# Altium schematic symbol library Schematic_Diode.SchLib: 12 symbols
Pins are listed as number, name and electrical type; pins without a type are passive.

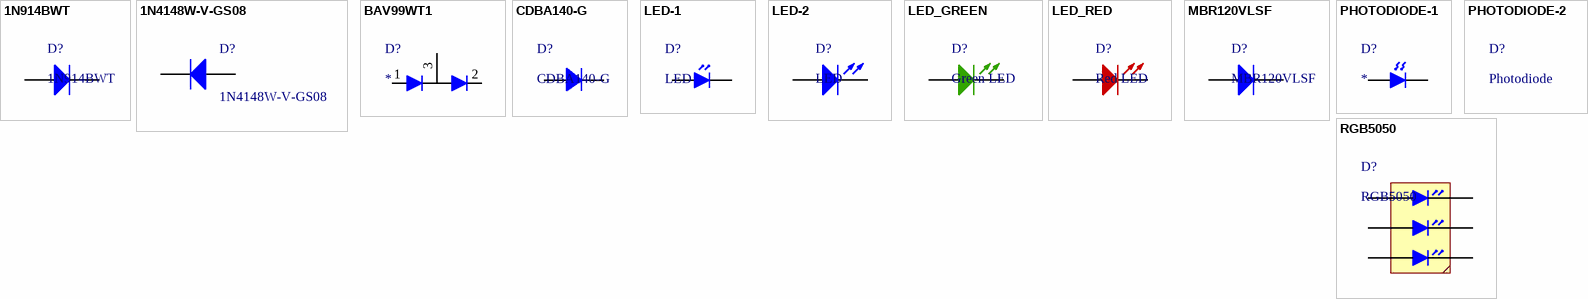
[diagram p0: symbols 1N914BWT to RGB5050]

## 1N914BWT
designator D?
DIODE GEN PURP 75V 200MA SOD523F; Manufacturer: ON Semiconductor / Fairchild; Peak Reverse Current: 5uA; Element Configuration: Single; Forward Current: 300mA; Forward Voltage: 1V; Reverse Recovery Time: 4ns; Power Dissipation: 200mW; Supplier 1: Digi-Key; Manufacturer Part Number: 1N914BWT; Stock 1: 39736; Pricing 1: 1=0.17, 10=0.159, 100=0.0866, 500=0.0533, 1000=0.0364 (USD); Mount: Surface Mount; Number of Pins: 2; Weight: 0.01g; Contact Plating: Tin,Matte; Min Operating Temperature: -55°C; Max Operating Temperature: 150°C; Max Repetitive Reverse Voltage (Vrrm): 75V; Package Quantity: 1; Packaging: Tape and Reel; Average Rectified Current: 200mA; Max Reverse Voltage (DC): 75V; Recovery Time: 4ns; Max Reverse Leakage Current: 5uA; Radiation Hardening: No; Lead Free: Lead Free; REACH SVHC: No SVHC; ComponentLink1URL: https://datasheet.ciiva.com/910/1n914bwt-910384.pdf; ComponentLink1Description: https://datasheet.ciiva.com/910/1n914bwt-910384.pdf; ComponentLink2URL: https://datasheet.ciiva.com/910/1n914bwt-910385.pdf; ComponentLink2Description: https://datasheet.ciiva.com/910/1n914bwt-910385.pdf; ComponentLink3URL: https://datasheet.ciiva.com/910/1n914bwt-910383.pdf; ComponentLink3Description: https://datasheet.ciiva.com/910/1n914bwt-910383.pdf; ComponentLink4URL: https://datasheet.ciiva.com/25953/1n4448wt-25953279.pdf; ComponentLink4Description: https://datasheet.ciiva.com/25953/1n4448wt-25953279.pdf
footprint SODFL160X70-2N (SOD-523F, 2-Leads, Body 0.80x1.60mm, IPC Medium Density)
pins: 1 A, 2 K

## 1N4148W-V-GS08
designator D?
Diodes - General Purpose, Power, Switching 100V Io/150mA; Manufacturer_Name: Vishay; Allied_Number: 70061969; Geometry.Height: 1.35mm; Manufacturer_Part_Number: 1N4148W-V-GS08; Mouser Part Number: 625-1N4148W-V; Mouser Price/Stock: https://www.mouser.com/Search/Refine.aspx?Keyword=625-1N4148W-V; RS Part Number: *; RS Price/Stock: *; Allied Price/Stock: https://www.alliedelec.com/vishay-small-signal-opto-products-ssp-1n4148w-v-gs08/70061969/; Datasheet Link: http://www.vishay.com/docs/85748/1n4148w.pdf; Supplier 1: Digi-Key; Supplier Part Number 1: 1N4148W-V-GS08CT-ND
footprint DIOM3715X14N (Molded Diode, 2-Leads, Body 3.70x1.55mm, IPC Medium Density)
pins: 1 K, 2 A

## BAV99WT1
designator D?
DIODE ARRAY GP 100V 215MA SC70-3
pins: 1 ANODE, 2 ANODE, 3 ANODE

## CDBA140-G
designator D?
DIODE SCHOTTKY 40V 1A DO214AC; Manufacturer 1: Comchip; Max Surge Current: 30A; Max Reverse Leakage Current: 500uA; Polarity: Standard; Supplier 1: Digi-Key; Manufacturer Part Number 1: CDBA140-G; Stock 1: 378486; Pricing 1: 1=0.34000, 10=0.27700, 100=0.11330, 500=0.09450, 1000=0.06566, 2500=0.06103 (USD); RoHS: Yes; Mount: Surface Mount; Packaging: Tape and Reel; Average Rectified Current: 1A; Max Reverse Voltage (DC): 40V; Package Quantity: 1; Voltage Rating (DC): 40V; Current Rating: 1A; Output Current: 1A; Lead Free: Lead Free; ComponentLink1URL: https://datasheet.ciiva.com/912/cdba120-gthru934256-cdba1100-grevc-912052.pdf?src-supplier=Digi-Key; ComponentLink1Description: https://datasheet.ciiva.com/912/cdba120-gthru934256-cdba1100-grevc-912052.pdf?src-supplier=Digi-Key; ComponentLink2URL: https://datasheet.ciiva.com/912/cdba120-gthru934256-cdba1100-grevc-912051.pdf?src-supplier=Digi-Key; ComponentLink2Description: https://datasheet.ciiva.com/912/cdba120-gthru934256-cdba1100-grevc-912051.pdf?src-supplier=Digi-Key; ComponentLink3URL: https://datasheet.ciiva.com/912/cdba120-gthru934256-cdba1100-grevc-912053.pdf?src-supplier=Digi-Key; ComponentLink3Description: https://datasheet.ciiva.com/912/cdba120-gthru934256-cdba1100-grevc-912053.pdf?src-supplier=Digi-Key
footprint DIOM4326X24N (DO214AC, SMA, Molded Diode, 2-Leads, Body 4.30x2.60mm, IPC Medium Density)
pins: 1 + "Anode", 2 - "Cathode"

## LED-1
designator D?, comment LED
General LED
pins: 1 + "Anode", 2 - "Cathode"

## LED-2
designator D?, comment LED
General LED
pins: 1 A, 2 K

## LED_GREEN
designator D?, comment Green LED
General Green LED
pins: 1 A, 2 K

## LED_RED
designator D?, comment Red LED
General Green LED
pins: 1 A, 2 K

## MBR120VLSF
designator D?
MBR120VLSF Series 20 V 1 A Surface Mount Schottky Power Rectifier - SOD-123FL; Voltage Rating (DC): 20V; Average Rectified Current: 1A; Element Configuration: Single; Forward Voltage: 340mV; Max Forward Surge Current (Ifsm): 45A; Max Reverse Leakage Current: 600uA; Polarity: Standard; Package Quantity: 10000; Lead Free: Lead Free; REACH SVHC: No SVHC; Radiation Hardening: No; Current Rating: 1A; Forward Current: 1A; Halogen Free: Halogen Free; Max Operating Temperature: 125°C; Max Repetitive Reverse Voltage (Vrrm): 20V; Max Reverse Voltage (DC): 20V; Max Surge Current: 45A; Min Operating Temperature: -65°C; Number of Pins: 2; Output Current: 1A; Packaging: Tape and Reel; Peak Non-Repetitive Surge Current: 45A; Peak Reverse Current: 600uA
footprint SOD375X160X120-2N (SODFL, 2-Leads, Body 3.75x1.60x1.20mm, IPC Medium Density)
pins: 1 A, 2 K

## PHOTODIODE-1
designator D?
General Photo Diode
pins: 1 + "Anode", 2 - "Cathode"

## PHOTODIODE-2
designator D?, comment Photodiode
General Photodiode

## RGB5050
designator D?
RGB LED 5mm x 5mm
footprint LED5050 (5mm x 5mm, 6 pins)
pins: 1 - "Cathode", 2 - "Cathode", 3 - "Cathode", 4 + "Anode", 5 + "Anode", 6 + "Anode"